# Altium footprint library THM 15-2411.PcbLib: 1 footprints
Each footprint in its own frame and in the unit in brackets; x right, y up, seen from the top. Pads: shape width x height; smd on the part's side, far side on the other; paste and mask are expansions set on the pad; w line width, h text height; cw(c..) or ccw(c..) is an arc to the next point about the centre after c.
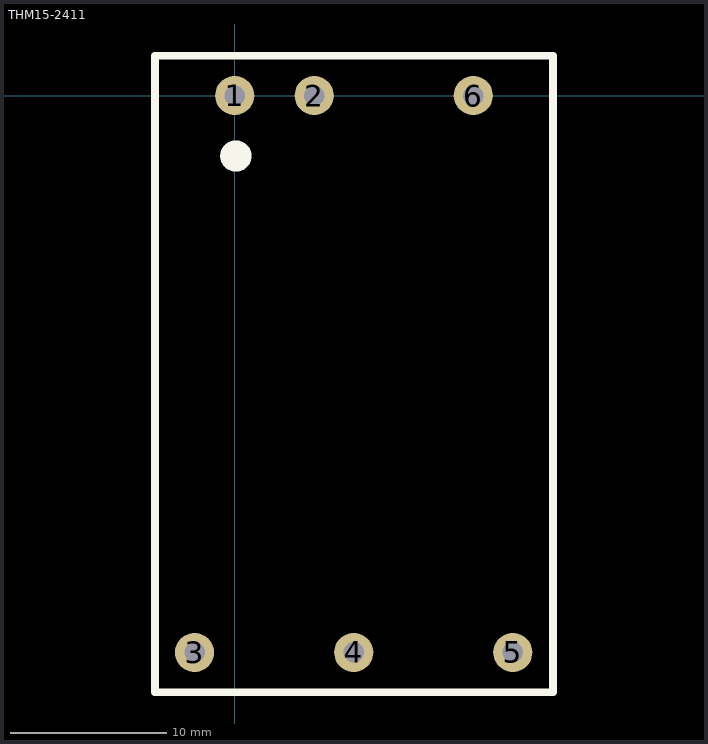
[diagram p0: the footprint, top view; thin cyan lines are the x and y axes]

## THM15-2411 [mm]
pads (6):
  round 2.5 hole 1.3: 1(0,0) 2(5.08,0) 3(-2.56,-35.56) 4(7.6,-35.56) 5(17.76,-35.56) 6(15.24,0)
Top Overlay:
  lines w0.5: -5.08,-38.1 -5.08,2.54 20.32,2.54 20.32,-38.1 -5.08,-38.1
  lines w1: 0.567,-3.767 ccw(c0.076,-3.861) 0.576,-3.861
3D body "thm15wi_3d_drawing.step": height 10.2, standoff -5.6, extent -5.05,-38.05 20.35,2.55